# Altium schematic symbol library 3588TR.SchLib: 1 symbol
Pins are listed as number, name and electrical type; pins without a type are passive.

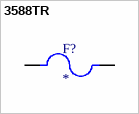
[diagram p0: symbol 3588TR]

## 3588TR
designator F?
Fuse Holder; SMT; Vertical Entry; Mini Auto; Tape & Reel | Keystone Electronics 3588TR; SnapEDA_Link: https://www.snapeda.com/parts/3588TR/Keystone/view-part/?ref=snap; Package: 2616 Keystone Electronics; Value: *; MF: Keystone Electronics; MP: 3588TR; Check_prices: https://www.snapeda.com/parts/3588TR/Keystone/view-part/?ref=eda
footprint FUSE_3588TR
pins: 1_1 1, 1_2 1, 2_1 2, 2_2 2